# Altium schematic symbol library MF-MSMF200-2.SchLib: 1 symbol
Pins are listed as number, name and electrical type; pins without a type are passive.

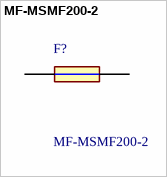
[diagram p0: symbol MF-MSMF200-2]

## MF-MSMF200-2
designator F?
Fuse, PTC, Resettable, SMD, 1812, 2.0A Bourns 2A Surface Mount Resettable Fuse, 8 V; Geometry.Height: 0.85mm; element14 Part Number: *; element14 Price/Stock: *; Manufacturer_Name: Bourns; Manufacturer_Part_Number: MF-MSMF200-2; Datasheet Link: *
footprint FUSC4632X85N
pins: 1, 2